# Altium schematic symbol library Mechanical.SchLib: 8 symbols
Pins are listed as number, name and electrical type; pins without a type are passive.

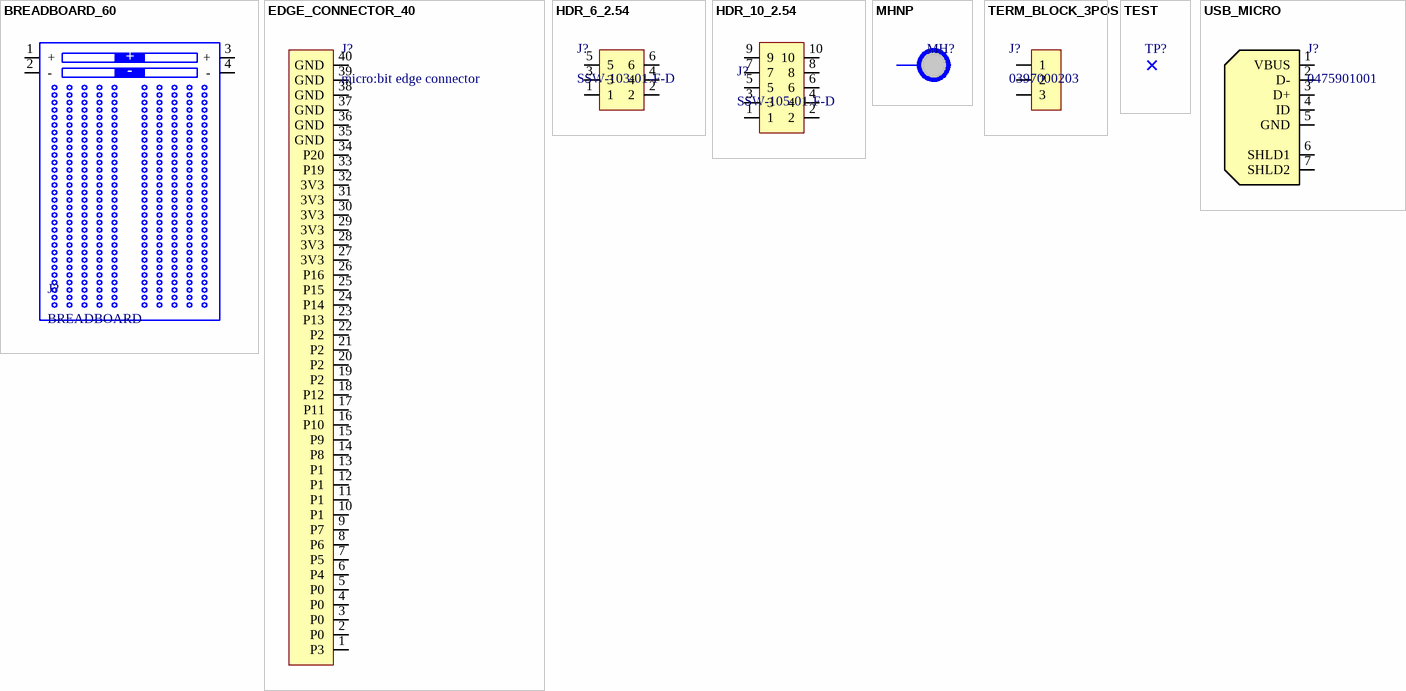
[diagram p0: symbols BREADBOARD_60 to USB_MICRO]

## BREADBOARD_60
designator J?, comment BREADBOARD  (no BOM)
Breadboard with 2 columns of 30 rows + VCC and GND rails
footprint BREADBOARD
pins: 1 +, 2 -, 3 +, 4 -

## EDGE_CONNECTOR_40
designator J?, comment micro:bit edge connector
3887 - SMT Right-Angle Connector for micro:bit; Manufacturer: Adafruit Industries; Manufacturer Part Number: 3887; Supplier 1: Digi-Key; RoHS: No; Stock 1: 1; Supplier Part Number 1: 1528-2644-ND; Pricing 1: 1=2.95000 (USD); ComponentLink1Description: Drawings; ComponentLink1URL: https://cdn-shop.adafruit.com/product-files/3887/3887_datasheet.pdf
footprint EDGE_CONNECTOR_40
pins: 1 P3, 2 P0, 3 P0, 4 P0, 5 P0, 6 P4, 7 P5, 8 P6, 9 P7, 10 P1, 11 P1, 12 P1, 13 P1, 14 P8, 15 P9, 16 P10, 17 P11, 18 P12, 19 P2, 20 P2, 21 P2, 22 P2, 23 P13, 24 P14, 25 P15, 26 P16, 27 3V3, 28 3V3, 29 3V3, 30 3V3, 31 3V3, 32 3V3, 33 P19, 34 P20, 35 GND, 36 GND, 37 GND, 38 GND, 39 GND, 40 GND

## HDR_6_2.54
designator J?, comment SSW-103-01-F-D
SAMTEC - SSW-103-01-F-D - CONNECTOR, RECEPTACLE, 6 CONTACTS, 2 ROWS, 2.54 MM; Max Current Rating: 7.6A; Contact Resistance: 10mR; Max Voltage Rating (AC): 550V; Number of Contacts: 6; Gender: Female; Mating Cycles: 100; Pitch: 2.54mm; Supplier 1: Digi-Key; Manufacturer: Samtec; Manufacturer Part Number: SSW-103-01-F-D; RoHS: Yes; Category: Headers and Wire Housings; Stock 1: 1509; Contact Plating: Gold; Contact Material: Bronze; Housing Color: Black; Color: Black; Housing Material: Polymer; Min Operating Temperature: -55°C; Max Operating Temperature: 125°C; Number of Rows: 2; Packaging: Bulk; Termination: Solder; Orientation: Vertical; Length: 8.13mm; Depth: 4.95mm; Radiation Hardening: No; RoHS Compliant: Yes; ComponentLink1URL: http://www.farnell.com/datasheets/2550265.pdf?src-supplier=Farnell; ComponentLink1Description: http://www.farnell.com/datasheets/2550265.pdf?src-supplier=Farnell; ComponentLink2URL: http://components.arrow.com/part/dataview/4842126S6546715N1004?src-supplier=Arrow+Electronics; ComponentLink2Description: http://components.arrow.com/part/dataview/4842126S6546715N1004?src-supplier=Arrow+Electronics; ComponentLink3URL: http://components.arrow.com/part/dataview/0323_00788229?src-supplier=Arrow+Europe; ComponentLink3Description: http://components.arrow.com/part/dataview/0323_00788229?src-supplier=Arrow+Europe; ComponentLink4URL: ftp://ftp.samtec.com/webfiles/PDF/SSQ_TH.PDF?src-supplier=Avnet; ComponentLink4Description: ftp://ftp.samtec.com/webfiles/PDF/SSQ_TH.PDF?src-supplier=Avnet; ComponentLink5URL: http://suddendocs.samtec.com/catalog_english/ssw_th.pdf?src-supplier=Digi-Key; ComponentLink5Description: http://suddendocs.samtec.com/catalog_english/ssw_th.pdf?src-supplier=Digi-Key; ComponentLink6URL: ftp://ftp.samtec.com/webfiles/PDF/SSQ_TH.PDF?src-supplier=Avnet+Europe; ComponentLink6Description: ftp://ftp.samtec.com/webfiles/PDF/SSQ_TH.PDF?src-supplier=Avnet+Europe; ComponentLink7URL: http://www.farnell.com/datasheets/2550265.pdf?src-supplier=Newark; ComponentLink7Description: http://www.farnell.com/datasheets/2550265.pdf?src-supplier=Newark; Supplier Part Number 1: SAM10016-ND; Pricing 1: 1=1.42000, 10=1.28700, 100=1.10290, 500=0.91910, 1000=0.78780, 5000=0.69852, 10000=0.68276 (USD)
footprint HDR_6_2.54
pins: 1, 2, 3, 4, 5, 6

## HDR_10_2.54
designator J?, comment SSW-105-01-F-D
Conn Socket Strip SKT 10 POS 2.54mm Solder ST Thru-Hole; Manufacturer: Samtec; Max Current Rating: 6.9A; Contact Resistance: 10mR; Max Voltage Rating (AC): 550V; Number of Contacts: 10; Gender: Female; Mating Cycles: 100; Supplier 1: Digi-Key; Manufacturer Part Number: SSW-105-01-F-D; RoHS: Yes; Category: Headers and Wire Housings; Stock 1: 1336; Contact Plating: Gold; Contact Material: Bronze; Housing Color: Black; Color: Black; Housing Material: Polymer; Min Operating Temperature: -55°C; Max Operating Temperature: 125°C; Number of Rows: 2; Packaging: Bulk; Termination: Solder; Orientation: Straight; Length: 13.21mm; Pitch: 2.54mm; Depth: 4.95mm; Radiation Hardening: No; ComponentLink1URL: http://components.arrow.com/part/dataview/2696898S8147588N1004?src-supplier=Arrow+Electronics; ComponentLink1Description: http://components.arrow.com/part/dataview/2696898S8147588N1004?src-supplier=Arrow+Electronics; ComponentLink2URL: http://components.arrow.com/part/dataview/0323_01330192?src-supplier=Arrow+Europe; ComponentLink2Description: http://components.arrow.com/part/dataview/0323_01330192?src-supplier=Arrow+Europe; ComponentLink3URL: http://suddendocs.samtec.com/catalog_english/ssw_th.pdf?src-supplier=Digi-Key; ComponentLink3Description: http://suddendocs.samtec.com/catalog_english/ssw_th.pdf?src-supplier=Digi-Key; ComponentLink4URL: ftp://ftp.samtec.com/webfiles/PDF/SSQ_TH.PDF?src-supplier=Avnet; ComponentLink4Description: ftp://ftp.samtec.com/webfiles/PDF/SSQ_TH.PDF?src-supplier=Avnet; ComponentLink5URL: ftp://ftp.samtec.com/webfiles/PDF/SSQ_TH.PDF?src-supplier=Avnet+Europe; ComponentLink5Description: ftp://ftp.samtec.com/webfiles/PDF/SSQ_TH.PDF?src-supplier=Avnet+Europe; Supplier Part Number 1: SAM9143-ND; Pricing 1: 1=1.87000, 10=1.62900, 100=1.45530, 500=1.21276, 1000=1.03950, 5000=0.92400 (USD)
footprint HDR_10_2.54
pins: 1, 2, 3, 4, 5, 6, 7, 8, 9, 10

## MHNP
designator MH?, comment MH 3.2mm NP  (value not drawn)  (no BOM)
Mounting hole 3.2mm non plated
footprint MH3.2MM (MHNP 3.2mm)
footprint MH3.2MM (MHNP 3.2mm)

## TERM_BLOCK_3POS
designator J?, comment 0397000203
SPRING TERMINAL BLOCK 3CVERT GRE; Manufacturer: Molex; Plating: Steel; Number of Levels: 1; Number of Positions Per Level: 3; Current: 6A; Voltage: 150V; Pitch: 0.1inch; Wire Gauge (Max): 26AWG; Wire Gauge (Min): 18AWG; Supplier 1: Digi-Key; Manufacturer Part Number: 0397000203; RoHS: Yes; Category: Terminal Blocks; Stock 1: 1368; Mount: Through Hole; Color: Green; Contact Plating: Brass,Tin; Housing Material: Nylon; Min Operating Temperature: -40°C; Max Operating Temperature: 105°C; Packaging: Bulk; Termination: Screwless; RoHS Compliant: Yes; ComponentLink1URL: http://www.molex.com/pdm_docs/sd/397000202_sd.pdf?src-supplier=Digi-Key; ComponentLink1Description: http://www.molex.com/pdm_docs/sd/397000202_sd.pdf?src-supplier=Digi-Key; Supplier Part Number 1: WM22175-ND; Pricing 1: 1=1.71000, 10=1.29200, 25=1.19680, 50=1.07620, 100=1.05000, 250=0.91876, 500=0.84000, 1000=0.76125, 5000=0.70000 (USD)
footprint TERM_BLOCK_3POS
pins: 1, 2, 3

## TEST
designator TP?  (no BOM)
Test point
footprint TEST POINT
pins: 1

## USB_MICRO
designator J?, comment 0475901001
USB - micro AB  Receptacle Connector 5 Position Surface Mount, Right Angle, Horizontal; Manufacturer: Molex; Number of Terminals/Pins: 5; Number of Ports: 1; Max Voltage Rating (AC): 30V; Pitch: 0.65mm; Supplier 1: Digi-Key; Manufacturer Part Number: 0475901001; RoHS: Yes; Category: USB Connectors; Stock 1: 6607; Mount: Surface Mount,Horizontal; Contact Material: Copper Alloy; Housing Material: Thermoplastic; Min Operating Temperature: -30°C; Max Operating Temperature: 85°C; Packaging: Tape and Reel; Package Quantity: 1500; Connector Type: USB; Number of Contacts: 5; Gender: Receptacle; Termination: Solder; Orientation: Right Angle; Features: Shielded; Length: 8.65mm; Depth: 6.1mm; Radiation Hardening: No; RoHS Compliant: Yes; ComponentLink1URL: https://datasheet.ciiva.com/29660/475901001-sd-29660111.pdf?src-supplier=Digi-Key; ComponentLink1Description: https://datasheet.ciiva.com/29660/475901001-sd-29660111.pdf?src-supplier=Digi-Key; Supplier Part Number 1: WM14336CT-ND; Pricing 1: 1=0.97000, 10=0.79900, 100=0.66600 (USD)
footprint USB_MICRO
pins: 1 VBUS, 2 D-, 3 D+, 4 ID, 5 GND, 6 SHLD1, 7 SHLD2